# EAGLE library part AS-ITM-00354 (library tinycircuits)
CONN FFC FPC VERT 8POS 1MM SMD
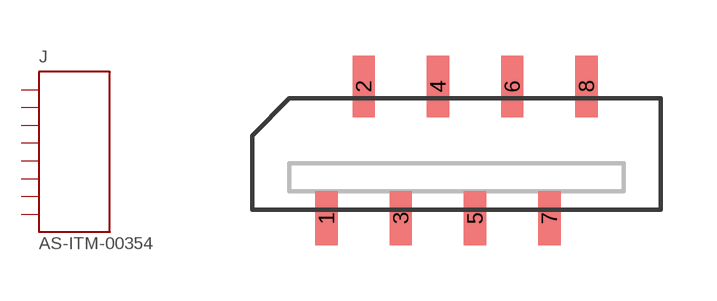
[diagram p139: symbol with the pads of 0528080871; footprint 0528080871]

Designator prefix J

## AS-ITM-00354 (PARTNO: AS-ITM-00354; VALUE: 0528080871)  [0528080871]
1  P$1
2  P$2
3  P$3
4  P$4
5  P$5
6  P$6
7  P$7
8  P$8

## Footprint 0528080871 (pad centres in mm)
smd 0.6 x 1.45: 1 -3.5,-1.725; 3 -1.5,-1.725; 5 0.5,-1.725; 7 2.5,-1.725
smd 0.6 x 1.65: 2 -2.5,1.825; 4 -0.5,1.825; 6 1.5,1.825; 8 3.5,1.825